# Altium footprint library MHS12204.PcbLib: 1 footprints
Each footprint in its own frame and in the unit in brackets; x right, y up, seen from the top. Pads: shape width x height; smd on the part's side, far side on the other; paste and mask are expansions set on the pad; w line width, h text height; cw(c..) or ccw(c..) is an arc to the next point about the centre after c.
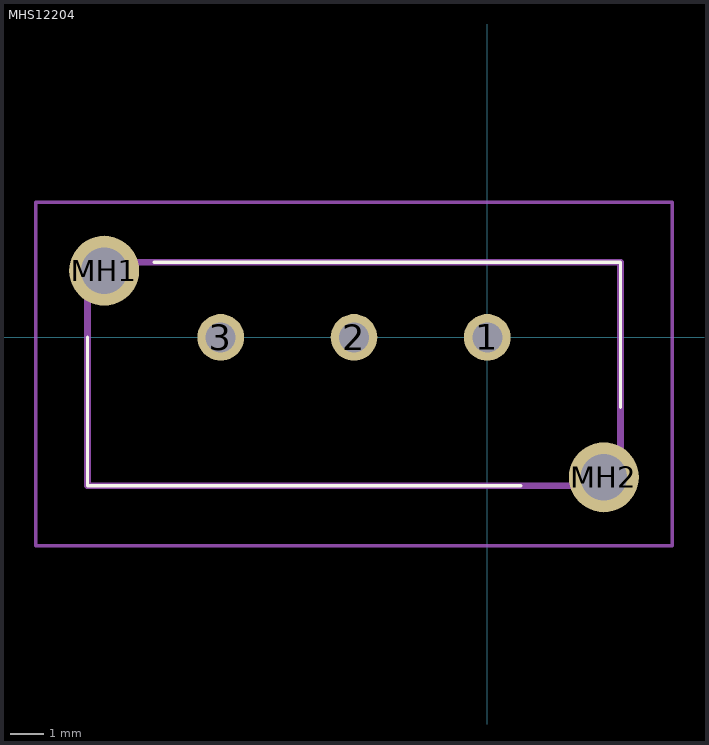
[diagram p0: the footprint, top view; thin cyan lines are the x and y axes]

## MHS12204 [mm]
pads (5):
  round 1.4 hole 0.9: 1(0,0) 2(-4,0) 3(-8,0)
  round 2.1 hole 1.4: MH1(-11.5,2) MH2(3.5,-4.2)
Top Overlay:
  lines w0.1: -12,0 -12,-4.45 1,-4.45 ; -10,2.25 4,2.25 4,-2.1
Mechanical 15:
  lines w0.2: -12,-4.45 4,-4.45 4,2.25 -12,2.25 -12,-4.45
Mechanical 20:
  lines w0.1: -13.55,-6.25 5.55,-6.25 5.55,4.05 -13.55,4.05 -13.55,-6.25